# EAGLE library part LM4766 (library Audio-Power-amlifier V.2.0)
LM4766 Overture™ Audio Power Amplifier Series Dual 40W Audio Power Amplifier with Mute
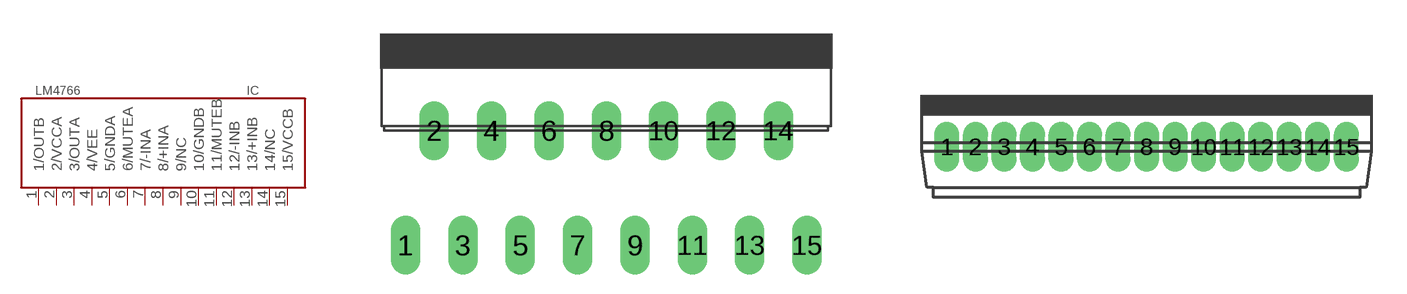
[diagram p195: symbol with the pads of TA15A; footprints TA15A, TA15B]

Designator prefix IC

## LM4766LM4766T/LF15  [TA15A]
1  1/OUTB  out
2  2/VCCA  pwr
3  3/OUTA  out
4  4/VEE  pwr
5  5/GNDA  pwr
6  6/MUTEA  in
7  7/-INA  in
8  8/+INA  in
9  9/NC  nc
10  10/GNDB  pwr
11  11/MUTEB  in
12  12/-INB  in
13  13/+INB  in
14  14/NC  nc
15  15/VCCB  pwr

## LM4766LM4766T/NOPB  [TA15B]
Pads as for TA15A

## LM4766LM4766TF/NOPB  [TF15A]
Pads as for TA15A

## Footprint TA15A (pad centres in mm)
TA15A www.national.com
drill 0.8 long: 1 -8.89,-5.08; 2 -7.62,0; 3 -6.35,-5.08; 4 -5.08,0; 5 -3.81,-5.08; 6 -2.54,0; 7 -1.27,-5.08; 8 0,0; 9 1.27,-5.08; 10 2.54,0; 11 3.81,-5.08; 12 5.08,0; 13 6.35,-5.08; 14 7.62,0; 15 8.89,-5.08

## Footprint TA15B (pad centres in mm)
TA15B
drill 0.6 pad 1.016 long: 1 -8.89,0; 2 -7.62,0; 3 -6.35,0; 4 -5.08,0; 5 -3.81,0; 6 -2.54,0; 7 -1.27,0; 8 0,0; 9 1.27,0; 10 2.54,0; 11 3.81,0; 12 5.08,0; 13 6.35,0; 14 7.62,0; 15 8.89,0

## Footprint TF15A (pad centres in mm)
TF15A www.national.com
drill 0.8 long: 1 -8.89,-5.08; 2 -7.62,0; 3 -6.35,-5.08; 4 -5.08,0; 5 -3.81,-5.08; 6 -2.54,0; 7 -1.27,-5.08; 8 0,0; 9 1.27,-5.08; 10 2.54,0; 11 3.81,-5.08; 12 5.08,0; 13 6.35,-5.08; 14 7.62,0; 15 8.89,-5.08